# Altium integrated library cap0805.IntLib: 1 symbol
Pins are listed as number, name and electrical type; pins without a type are passive.

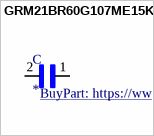
[diagram p0: symbol GRM21BR60G107ME15K]

## GRM21BR60G107ME15K
designator C
Ceramic Capacitor; MF: Murata; MP: GRM21BR60G107ME15K; Price: None; Value: *; Mouser-Purchase-URL: https://snapeda.com/shop?store=Mouser&id=1982998; Package: 0805 Murata; SnapEDA_Link: https://www.snapeda.com/parts/GRM21BR60G107ME15K/Murata/view-part/1982998/?ref=snap; Availability: Warning; BuyPart: https://www.snapeda.com/parts/GRM21BR60G107ME15K/Murata/view-part/1982998/?ref=eda
footprint CAPC2012X135N
pins: 1, 2